# Altium footprint library CON6_2.54_STAGGERED.PcbLib: 1 footprints
Each footprint in its own frame and in the unit in brackets; x right, y up, seen from the top. Pads: shape width x height; smd on the part's side, far side on the other; paste and mask are expansions set on the pad; w line width, h text height; cw(c..) or ccw(c..) is an arc to the next point about the centre after c.
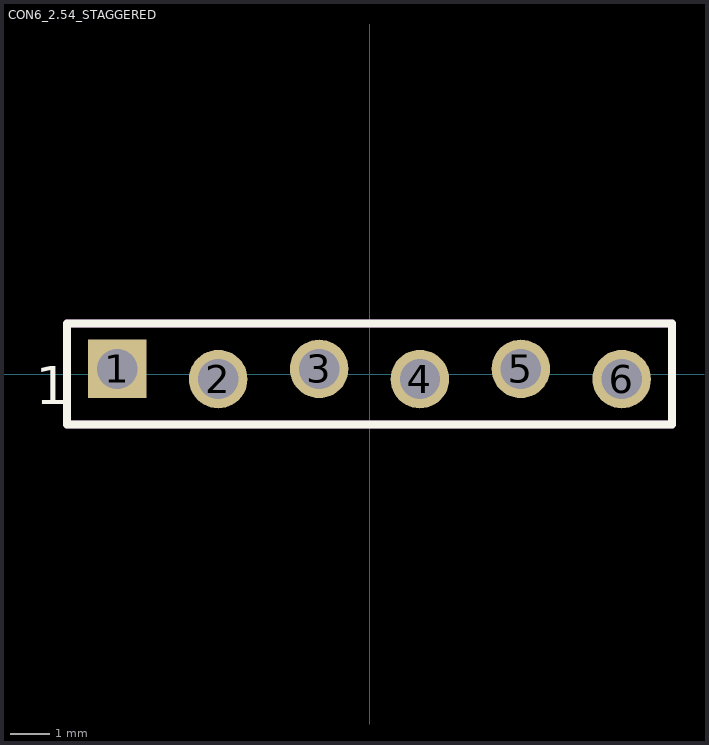
[diagram p0: the footprint, top view; thin cyan lines are the x and y axes]

## CON6_2.54_STAGGERED [mil]
pads (6):
  rect 58x58 hole 40: 1(-250,5)
  round 58 hole 40: 2(-150,-5) 3(-50,5) 4(50,-5) 5(150,5) 6(250,-5)
Top Overlay:
  lines w8: -300,-50 300,-50 300,50 -300,50 -300,-50
  text "1" at -330.81,-29.85 h37.5
Mechanical 1:
  lines w8: -300,-50 300,-50 300,50 -300,50 -300,-50